# Altium schematic symbol library Voltage_Regulators.SchLib: 1 symbol
Pins are listed as number, name and electrical type; pins without a type are passive.

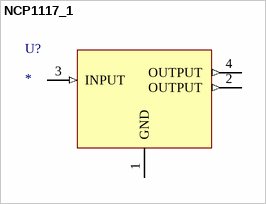
[diagram p0: symbol NCP1117_1]

## NCP1117_1
designator U?
IC REG LINEAR 3.3V 1A SOT-223
footprint NCP1117 (IC REG LINEAR 3.3V 1A SOT-223)
pins: 1 GND (power), 2 OUTPUT (out), 3 INPUT (in), 4 OUTPUT (out)